# EAGLE library part PVI1050N (library opto)
PVI1050N: Dual photovoltaic isolator (International Rectifier) 50mA input, 8V@5µA output
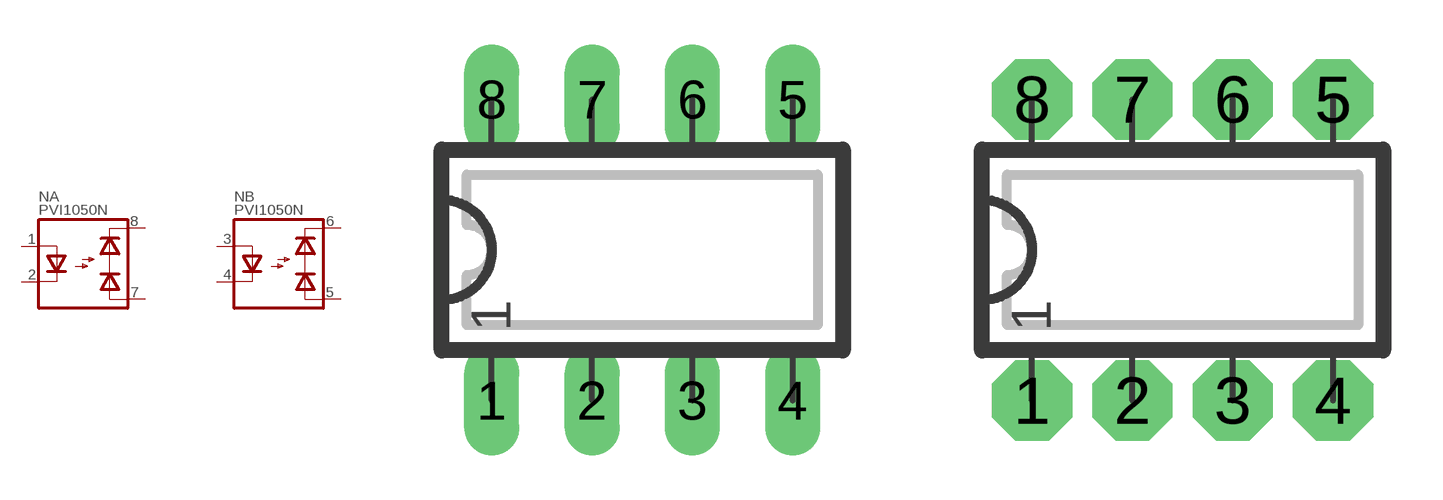
[diagram p15: symbol with the pads of DIP08L; footprints DIP08L, DIP08N]

Designator prefix N; gates A=OPTO5 B=OPTO5

## PVI1050N  [DIP08L]
1  A:INA  in
2  A:INC  in
3  B:INA  in
4  B:INC  in
5  B:OA
6  B:OC
7  A:OA
8  A:OC

## PVI1050NL  [DIP08L]
Pads as for DIP08L

## PVI1050NN  [DIP08N]
Pads as for DIP08L

## PVI1050NR  [DIP08R]
Pads as for DIP08L

## Footprint DIP08L (pad centres in mm)
DIP-8, long pads Standard IC package, 8 pins
drill 0.813 pad 1.397 long: 1 0,0; 2 2.54,0; 3 5.08,0; 4 7.62,0; 5 7.62,7.62; 6 5.08,7.62; 7 2.54,7.62; 8 0,7.62

## Footprint DIP08N (pad centres in mm)
DIP-8 Standard IC package, 8 pins
drill 0.813 pad 2.032 octagon: 1 0,0; 2 2.54,0; 3 5.08,0; 4 7.62,0; 5 7.62,7.62; 6 5.08,7.62; 7 2.54,7.62; 8 0,7.62

## Footprint DIP08R (pad centres in mm)
DIP-8, reduced pads Standard IC package, 8 pins
drill 0.813 pad 1.397 square: 1 0,0; 2 2.54,0; 3 5.08,0; 4 7.62,0; 5 7.62,7.62; 6 5.08,7.62; 7 2.54,7.62; 8 0,7.62